# EAGLE library part SST39SF040-70-4C-PHE (library rcbussbc)
Microchip SST39SF040-70-4C-PHE, Parallel, Serial 4Mbit Flash Memory, 70ns; 5V, PDIP, 32-Pin Source: Datasheet <http://ww1.microchip.com/downloads/en/DeviceDoc/20005022C.pdf>
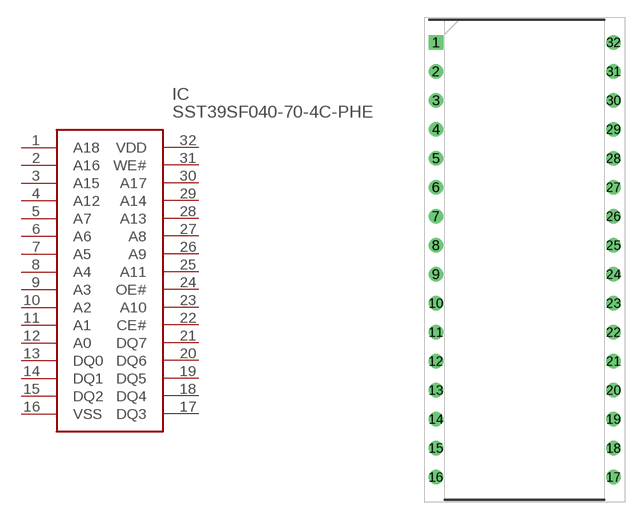
[diagram p12: symbol with the pads of DIP1556W56P254L4191H508Q32N; footprint DIP1556W56P254L4191H508Q32N]

Designator prefix IC

## SST39SF040-70-4C-PHE (ARROW_PART_NUMBER: SST39SF040-70-4C-PHE; ARROW_PRICE-STOCK: https://www.arrow.com/en/products/sst39sf040-70-4c-phe/microchip-technology; DESCRIPTION: Microchip SST39SF040-70-4C-PHE, Parallel, Serial 4Mbit Flash Memory, 70ns; 5V, PDIP, 32-Pin; HEIGHT: 5.08mm; MANUFACTURER_NAME: Microchip; MANUFACTURER_PART_NUMBER: SST39SF040-70-4C-PHE; MOUSER_PART_NUMBER: 804-39SF0407CPHE; MOUSER_PRICE-STOCK: https://www.mouser.co.uk/ProductDetail/Microchip-Technology/SST39SF040-70-4C-PHE?qs=YClUa%252B2dcx1pgizrqJ6nyQ%3D%3D)  [DIP1556W56P254L4191H508Q32N]
1  A18
2  A16
3  A15
4  A12
5  A7
6  A6
7  A5
8  A4
9  A3
10  A2
11  A1
12  A0
13  DQ0
14  DQ1
15  DQ2
16  VSS
17  DQ3
18  DQ4
19  DQ5
20  DQ6
21  DQ7
22  CE#
23  A10
24  OE#
25  A11
26  A9
27  A8
28  A13
29  A14
30  A17
31  WE#
32  VDD

## Footprint DIP1556W56P254L4191H508Q32N (pad centres in mm)
32-pdip-PH-3
drill 0.758 pad 1.158 square: 1 -7.779,19.05
drill 0.758 pad 1.158: 2 -7.779,16.51; 3 -7.779,13.97; 4 -7.779,11.43; 5 -7.779,8.89; 6 -7.779,6.35; 7 -7.779,3.81; 8 -7.779,1.27; 9 -7.779,-1.27; 10 -7.779,-3.81; 11 -7.779,-6.35; 12 -7.779,-8.89; 13 -7.779,-11.43; 14 -7.779,-13.97; 15 -7.779,-16.51; 16 -7.779,-19.05; 17 7.779,-19.05; 18 7.779,-16.51; 19 7.779,-13.97; 20 7.779,-11.43; 21 7.779,-8.89; 22 7.779,-6.35; 23 7.779,-3.81; 24 7.779,-1.27; 25 7.779,1.27; 26 7.779,3.81; 27 7.779,6.35; 28 7.779,8.89; 29 7.779,11.43; 30 7.779,13.97; 31 7.779,16.51; 32 7.779,19.05